# Altium schematic symbol library INVERTED_PIN.SchLib: 1 symbol
Pins are listed as number, name and electrical type; pins without a type are passive.

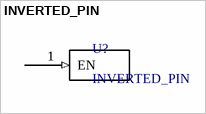
[diagram p0: symbol INVERTED_PIN]

## INVERTED_PIN
designator U?
Inverted pin with dot
pins: 1 EN (in)